# Altium schematic symbol library WE-TPC.SchLib: 258 symbols (part 5 of 5)
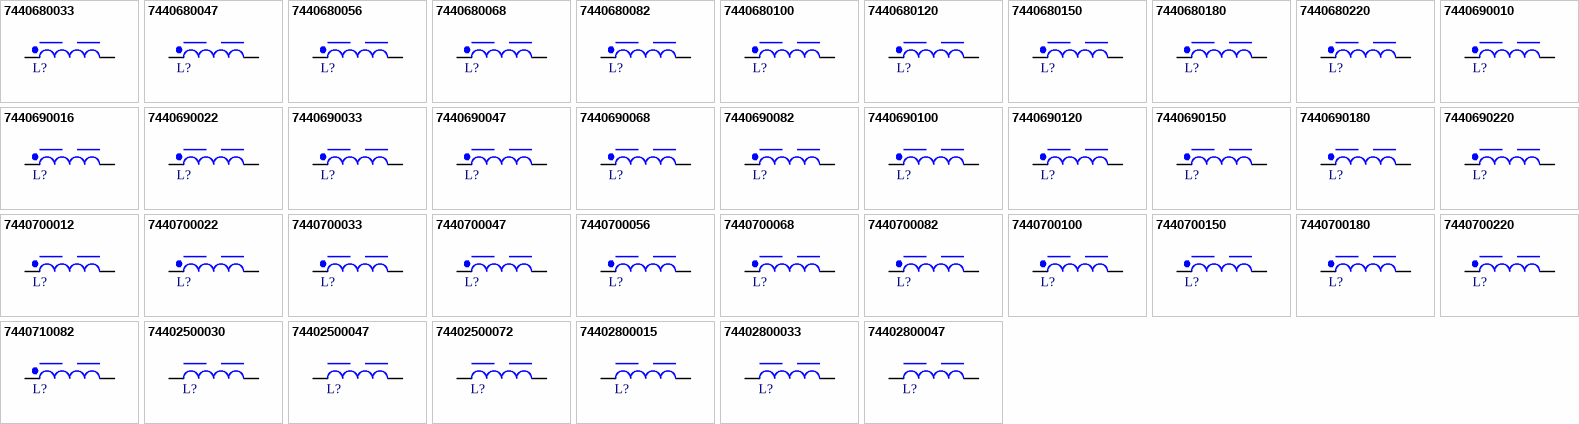
[diagram p10: symbols 7440680033 to 74402800047]

## 7440700220
designator L?, comment 22uH, 1.3A  (value not drawn)
WE-TPC SMT Tiny Power Inductor, size 8020, 22uH, 1.3A, 166mOhm; Manufacturer Part Number: 7440700220; Manufacturer: Wurth Elektronik; Case/Size Code: 8020; Saturation Current: 1A; Self Resonant Frequency: 16MHz; Category: Power Inductors; Match Code: WE-TPC; ComponentLink1Description: Website Link; ComponentLink1URL: https://www.we-online.com/redexpert/article/7440700220?ad; ComponentLink2Description: Datasheet Link; ComponentLink2URL: https://www.we-online.com/redexpert/spec/7440700220?ad; Mount: Surface Mount; Operating Temperature Max: 125°C; Operating Temperature Min: -40°C; Packaging: Tape and Reel; Length: 8mm; Width: 8mm; Height: 1.8mm; DC Resistance: 166mOhm; Inductance: 22uH; Rated Current: 1.3A
footprint WE-TPC_8020
simulation model 8020_7440700220_22u
pins: 1, 2

## 7440710082
designator L?, comment 0.82uH, 7.3A  (value not drawn)
WE-TPC SMT Tiny Power Inductor, size 8043, 0.82uH, 7.3A, 7mOhm; Manufacturer Part Number: 7440710082; Manufacturer: Wurth Elektronik; Case/Size Code: 8043; Saturation Current: 8A; Self Resonant Frequency: 130MHz; Category: Power Inductors; Match Code: WE-TPC; ComponentLink1Description: Website Link; ComponentLink1URL: https://www.we-online.com/redexpert/article/7440710082?ad; ComponentLink2Description: Datasheet Link; ComponentLink2URL: https://www.we-online.com/redexpert/spec/7440710082?ad; Mount: Surface Mount; Operating Temperature Max: 125°C; Operating Temperature Min: -40°C; Packaging: Tape and Reel; Length: 8mm; Width: 8mm; Height: 4.3mm; DC Resistance: 7mOhm; Inductance: 0.82uH; Rated Current: 7.3A
footprint WE-TPC_8043
simulation model 8043_7440710082_0.82u
pins: 1, 2

## 74402500030
designator L?, comment 0.3uH, 3.9A  (value not drawn)
WE-TPC SMT Tiny Power Inductor, size 2828, 0.3uH, 3.9A, 15mOhm; Manufacturer Part Number: 74402500030; Manufacturer: Wurth Elektronik; Case/Size Code: 2828; Saturation Current: 5.7A; Self Resonant Frequency: 440MHz; Category: Power Inductors; Match Code: WE-TPC; ComponentLink1Description: Website Link; ComponentLink1URL: https://www.we-online.com/redexpert/article/74402500030?ad; ComponentLink2Description: Datasheet Link; ComponentLink2URL: https://www.we-online.com/redexpert/spec/74402500030?ad; Mount: Surface Mount; Operating Temperature Max: 125°C; Operating Temperature Min: -40°C; Packaging: Tape and Reel; Length: 2.8mm; Width: 2.8mm; Height: 2.8mm; DC Resistance: 15mOhm; Inductance: 0.3uH; Rated Current: 3.9A
footprint WE-TPC_2828
simulation model 2828_74402500030_0.3u
pins: 1, 2

## 74402500047
designator L?, comment 0.47uH, 3.3A  (value not drawn)
WE-TPC SMT Tiny Power Inductor, size 2828, 0.47uH, 3.3A, 19mOhm; Manufacturer Part Number: 74402500047; Manufacturer: Wurth Elektronik; Case/Size Code: 2828; Saturation Current: 4.7A; Self Resonant Frequency: 290MHz; Category: Power Inductors; Match Code: WE-TPC; ComponentLink1Description: Website Link; ComponentLink1URL: https://www.we-online.com/redexpert/article/74402500047?ad; ComponentLink2Description: Datasheet Link; ComponentLink2URL: https://www.we-online.com/redexpert/spec/74402500047?ad; Mount: Surface Mount; Operating Temperature Max: 125°C; Operating Temperature Min: -40°C; Packaging: Tape and Reel; Length: 2.8mm; Width: 2.8mm; Height: 2.8mm; DC Resistance: 19mOhm; Inductance: 0.47uH; Rated Current: 3.3A
footprint WE-TPC_2828
simulation model 2828_74402500047_0.47u
pins: 1, 2

## 74402500072
designator L?, comment 0.72uH, 3A  (value not drawn)
WE-TPC SMT Tiny Power Inductor, size 2828, 0.72uH, 3A, 23.5mOhm; Manufacturer Part Number: 74402500072; Manufacturer: Wurth Elektronik; Case/Size Code: 2828; Saturation Current: 4A; Self Resonant Frequency: 210MHz; Category: Power Inductors; Match Code: WE-TPC; ComponentLink1Description: Website Link; ComponentLink1URL: https://www.we-online.com/redexpert/article/74402500072?ad; ComponentLink2Description: Datasheet Link; ComponentLink2URL: https://www.we-online.com/redexpert/spec/74402500072?ad; Mount: Surface Mount; Operating Temperature Max: 125°C; Operating Temperature Min: -40°C; Packaging: Tape and Reel; Length: 2.8mm; Width: 2.8mm; Height: 2.8mm; DC Resistance: 23.5mOhm; Inductance: 0.72uH; Rated Current: 3A
footprint WE-TPC_2828
simulation model 2828_74402500072_0.72u
pins: 1, 2

## 74402800015
designator L?, comment 0.15uH, 3A  (value not drawn)
WE-TPC SMT Tiny Power Inductor, size 2811, 0.15uH, 3A, 18mOhm; Manufacturer Part Number: 74402800015; Manufacturer: Wurth Elektronik; Case/Size Code: 2811; Saturation Current: 3.6A; Self Resonant Frequency: 800MHz; Category: Power Inductors; Match Code: WE-TPC; ComponentLink1Description: Website Link; ComponentLink1URL: https://www.we-online.com/redexpert/article/74402800015?ad; ComponentLink2Description: Datasheet Link; ComponentLink2URL: https://www.we-online.com/redexpert/spec/74402800015?ad; Mount: Surface Mount; Operating Temperature Max: 125°C; Operating Temperature Min: -40°C; Packaging: Tape and Reel; Length: 2.78mm; Width: 2.78mm; Height: 1.1mm; DC Resistance: 18mOhm; Inductance: 0.15uH; Rated Current: 3A
footprint WE-TPC_2811
simulation model 2811_74402800015_0.15u
pins: 1, 2

## 74402800033
designator L?, comment 0.33uH, 2.8A  (value not drawn)
WE-TPC SMT Tiny Power Inductor, size 2811, 0.33uH, 2.8A, 27mOhm; Manufacturer Part Number: 74402800033; Manufacturer: Wurth Elektronik; Case/Size Code: 2811; Saturation Current: 2.4A; Self Resonant Frequency: 550MHz; Category: Power Inductors; Match Code: WE-TPC; ComponentLink1Description: Website Link; ComponentLink1URL: https://www.we-online.com/redexpert/article/74402800033?ad; ComponentLink2Description: Datasheet Link; ComponentLink2URL: https://www.we-online.com/redexpert/spec/74402800033?ad; Mount: Surface Mount; Operating Temperature Max: 125°C; Operating Temperature Min: -40°C; Packaging: Tape and Reel; Length: 2.78mm; Width: 2.78mm; Height: 1.1mm; DC Resistance: 27mOhm; Inductance: 0.33uH; Rated Current: 2.8A
footprint WE-TPC_2811
simulation model 2811_74402800033_0.33u
pins: 1, 2

## 74402800047
designator L?, comment 0.47uH, 2.5A  (value not drawn)
WE-TPC SMT Tiny Power Inductor, size 2811, 0.47uH, 2.5A, 36mOhm; Manufacturer Part Number: 74402800047; Manufacturer: Wurth Elektronik; Case/Size Code: 2811; Saturation Current: 2A; Self Resonant Frequency: 350MHz; Category: Power Inductors; Match Code: WE-TPC; ComponentLink1Description: Website Link; ComponentLink1URL: https://www.we-online.com/redexpert/article/74402800047?ad; ComponentLink2Description: Datasheet Link; ComponentLink2URL: https://www.we-online.com/redexpert/spec/74402800047?ad; Mount: Surface Mount; Operating Temperature Max: 125°C; Operating Temperature Min: -40°C; Packaging: Tape and Reel; Length: 2.78mm; Width: 2.78mm; Height: 1.1mm; DC Resistance: 36mOhm; Inductance: 0.47uH; Rated Current: 2.5A
footprint WE-TPC_2811
simulation model 2811_74402800047_0.47u
pins: 1, 2

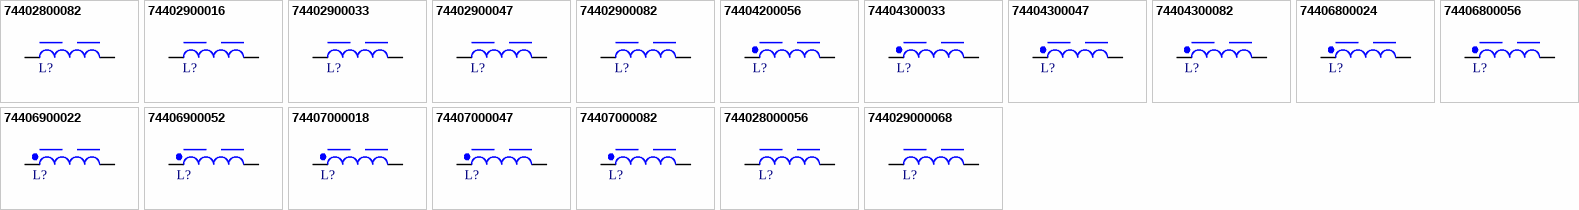
[diagram p6: symbols 74402800082 to 744029000068]

## 74402800082
designator L?, comment 0.82uH, 2A  (value not drawn)
WE-TPC SMT Tiny Power Inductor, size 2811, 0.82uH, 2A, 53mOhm; Manufacturer Part Number: 74402800082; Manufacturer: Wurth Elektronik; Case/Size Code: 2811; Saturation Current: 1.6A; Self Resonant Frequency: 180MHz; Category: Power Inductors; Match Code: WE-TPC; ComponentLink1Description: Website Link; ComponentLink1URL: https://www.we-online.com/redexpert/article/74402800082?ad; ComponentLink2Description: Datasheet Link; ComponentLink2URL: https://www.we-online.com/redexpert/spec/74402800082?ad; Mount: Surface Mount; Operating Temperature Max: 125°C; Operating Temperature Min: -40°C; Packaging: Tape and Reel; Length: 2.78mm; Width: 2.78mm; Height: 1.1mm; DC Resistance: 53mOhm; Inductance: 0.82uH; Rated Current: 2A
footprint WE-TPC_2811
simulation model 2811_74402800082_0.82u
pins: 1, 2

## 74402900016
designator L?, comment 0.16uH, 3.8A  (value not drawn)
WE-TPC SMT Tiny Power Inductor, size 2813, 0.16uH, 3.8A, 16mOhm; Manufacturer Part Number: 74402900016; Manufacturer: Wurth Elektronik; Case/Size Code: 2813; Saturation Current: 3.9A; Self Resonant Frequency: 800MHz; Category: Power Inductors; Match Code: WE-TPC; ComponentLink1Description: Website Link; ComponentLink1URL: https://www.we-online.com/redexpert/article/74402900016?ad; ComponentLink2Description: Datasheet Link; ComponentLink2URL: https://www.we-online.com/redexpert/spec/74402900016?ad; Mount: Surface Mount; Operating Temperature Max: 125°C; Operating Temperature Min: -40°C; Packaging: Tape and Reel; Length: 2.78mm; Width: 2.78mm; Height: 1.35mm; DC Resistance: 16mOhm; Inductance: 0.16uH; Rated Current: 3.8A
footprint WE-TPC_2813
simulation model 2813_74402900016_0.16u
pins: 1, 2

## 74402900033
designator L?, comment 0.33uH, 3.1A  (value not drawn)
WE-TPC SMT Tiny Power Inductor, size 2813, 0.33uH, 3.1A, 23mOhm; Manufacturer Part Number: 74402900033; Manufacturer: Wurth Elektronik; Case/Size Code: 2813; Saturation Current: 2.7A; Self Resonant Frequency: 500MHz; Category: Power Inductors; Match Code: WE-TPC; ComponentLink1Description: Website Link; ComponentLink1URL: https://www.we-online.com/redexpert/article/74402900033?ad; ComponentLink2Description: Datasheet Link; ComponentLink2URL: https://www.we-online.com/redexpert/spec/74402900033?ad; Mount: Surface Mount; Operating Temperature Max: 125°C; Operating Temperature Min: -40°C; Packaging: Tape and Reel; Length: 2.78mm; Width: 2.78mm; Height: 1.35mm; DC Resistance: 23mOhm; Inductance: 0.33uH; Rated Current: 3.1A
footprint WE-TPC_2813
simulation model 2813_74402900033_0.33u
pins: 1, 2

## 74402900047
designator L?, comment 0.47uH, 2.8A  (value not drawn)
WE-TPC SMT Tiny Power Inductor, size 2813, 0.47uH, 2.8A, 29mOhm; Manufacturer Part Number: 74402900047; Manufacturer: Wurth Elektronik; Case/Size Code: 2813; Saturation Current: 2.2A; Self Resonant Frequency: 350MHz; Category: Power Inductors; Match Code: WE-TPC; ComponentLink1Description: Website Link; ComponentLink1URL: https://www.we-online.com/redexpert/article/74402900047?ad; ComponentLink2Description: Datasheet Link; ComponentLink2URL: https://www.we-online.com/redexpert/spec/74402900047?ad; Mount: Surface Mount; Operating Temperature Max: 125°C; Operating Temperature Min: -40°C; Packaging: Tape and Reel; Length: 2.78mm; Width: 2.78mm; Height: 1.35mm; DC Resistance: 29mOhm; Inductance: 0.47uH; Rated Current: 2.8A
footprint WE-TPC_2813
simulation model 2813_74402900047_0.47u
pins: 1, 2

## 74402900082
designator L?, comment 0.82uH, 2.4A  (value not drawn)
WE-TPC SMT Tiny Power Inductor, size 2813, 0.82uH, 2.4A, 36mOhm; Manufacturer Part Number: 74402900082; Manufacturer: Wurth Elektronik; Case/Size Code: 2813; Saturation Current: 1.8A; Self Resonant Frequency: 200MHz; Category: Power Inductors; Match Code: WE-TPC; ComponentLink1Description: Website Link; ComponentLink1URL: https://www.we-online.com/redexpert/article/74402900082?ad; ComponentLink2Description: Datasheet Link; ComponentLink2URL: https://www.we-online.com/redexpert/spec/74402900082?ad; Mount: Surface Mount; Operating Temperature Max: 125°C; Operating Temperature Min: -40°C; Packaging: Tape and Reel; Length: 2.78mm; Width: 2.78mm; Height: 1.35mm; DC Resistance: 36mOhm; Inductance: 0.82uH; Rated Current: 2.4A
footprint WE-TPC_2813
simulation model 2813_74402900082_0.82u
pins: 1, 2

## 74404200056
designator L?, comment 0.56uH, 3.1A  (value not drawn)
WE-TPC SMT Tiny Power Inductor, size 4818, 0.56uH, 3.1A, 19mOhm; Manufacturer Part Number: 74404200056; Manufacturer: Wurth Elektronik; Case/Size Code: 4818; Saturation Current: 3A; Self Resonant Frequency: 190MHz; Category: Power Inductors; Match Code: WE-TPC; ComponentLink1Description: Website Link; ComponentLink1URL: https://www.we-online.com/redexpert/article/74404200056?ad; ComponentLink2Description: Datasheet Link; ComponentLink2URL: https://www.we-online.com/redexpert/spec/74404200056?ad; Mount: Surface Mount; Operating Temperature Max: 125°C; Operating Temperature Min: -40°C; Packaging: Tape and Reel; Length: 4.8mm; Width: 4.8mm; Height: 1.8mm; DC Resistance: 19mOhm; Inductance: 0.56uH; Rated Current: 3.1A
footprint WE-TPC_4818
simulation model 4818_74404200056_0.56u
pins: 1, 2

## 74404300033
designator L?, comment 0.33uH, 4A  (value not drawn)
WE-TPC SMT Tiny Power Inductor, size 4828, 0.33uH, 4A, 8mOhm; Manufacturer Part Number: 74404300033; Manufacturer: Wurth Elektronik; Case/Size Code: 4828; Saturation Current: 6A; Self Resonant Frequency: 400MHz; Category: Power Inductors; Match Code: WE-TPC; ComponentLink1Description: Website Link; ComponentLink1URL: https://www.we-online.com/redexpert/article/74404300033?ad; ComponentLink2Description: Datasheet Link; ComponentLink2URL: https://www.we-online.com/redexpert/spec/74404300033?ad; Mount: Surface Mount; Operating Temperature Max: 125°C; Operating Temperature Min: -40°C; Packaging: Tape and Reel; Length: 4.8mm; Width: 4.8mm; Height: 2.8mm; DC Resistance: 8mOhm; Inductance: 0.33uH; Rated Current: 4A
footprint WE-TPC_4828
simulation model 4828_74404300033_0.33u
pins: 1, 2

## 74404300047
designator L?, comment 0.47uH, 3.8A  (value not drawn)
WE-TPC SMT Tiny Power Inductor, size 4828, 0.47uH, 3.8A, 10mOhm; Manufacturer Part Number: 74404300047; Manufacturer: Wurth Elektronik; Case/Size Code: 4828; Saturation Current: 5A; Self Resonant Frequency: 200MHz; Category: Power Inductors; Match Code: WE-TPC; ComponentLink1Description: Website Link; ComponentLink1URL: https://www.we-online.com/redexpert/article/74404300047?ad; ComponentLink2Description: Datasheet Link; ComponentLink2URL: https://www.we-online.com/redexpert/spec/74404300047?ad; Mount: Surface Mount; Operating Temperature Max: 125°C; Operating Temperature Min: -40°C; Packaging: Tape and Reel; Length: 4.8mm; Width: 4.8mm; Height: 2.8mm; DC Resistance: 10mOhm; Inductance: 0.47uH; Rated Current: 3.8A
footprint WE-TPC_4828
simulation model 4828_74404300047_0.47u
pins: 1, 2

## 74404300082
designator L?, comment 0.82uH, 3.5A  (value not drawn)
WE-TPC SMT Tiny Power Inductor, size 4828, 0.82uH, 3.5A, 14mOhm; Manufacturer Part Number: 74404300082; Manufacturer: Wurth Elektronik; Case/Size Code: 4828; Saturation Current: 3.7A; Self Resonant Frequency: 170MHz; Category: Power Inductors; Match Code: WE-TPC; ComponentLink1Description: Website Link; ComponentLink1URL: https://www.we-online.com/redexpert/article/74404300082?ad; ComponentLink2Description: Datasheet Link; ComponentLink2URL: https://www.we-online.com/redexpert/spec/74404300082?ad; Mount: Surface Mount; Operating Temperature Max: 125°C; Operating Temperature Min: -40°C; Packaging: Tape and Reel; Length: 4.8mm; Width: 4.8mm; Height: 2.8mm; DC Resistance: 14mOhm; Inductance: 0.82uH; Rated Current: 3.5A
footprint WE-TPC_4828
simulation model 4828_74404300082_0.82u
pins: 1, 2

## 74406800024
designator L?, comment 0.24uH, 4.1A  (value not drawn)
WE-TPC SMT Tiny Power Inductor, size 8012, 0.24uH, 4.1A, 15mOhm; Manufacturer Part Number: 74406800024; Manufacturer: Wurth Elektronik; Case/Size Code: 8012; Saturation Current: 5.8A; Self Resonant Frequency: 200MHz; Category: Power Inductors; Match Code: WE-TPC; ComponentLink1Description: Website Link; ComponentLink1URL: https://www.we-online.com/redexpert/article/74406800024?ad; ComponentLink2Description: Datasheet Link; ComponentLink2URL: https://www.we-online.com/redexpert/spec/74406800024?ad; Mount: Surface Mount; Operating Temperature Max: 125°C; Operating Temperature Min: -40°C; Packaging: Tape and Reel; Length: 8mm; Width: 8mm; Height: 1.1mm; DC Resistance: 15mOhm; Inductance: 0.24uH; Rated Current: 4.1A
footprint WE-TPC_8012
simulation model 8012_74406800024_0.24u
pins: 1, 2

## 74406800056
designator L?, comment 0.56uH, 3.4A  (value not drawn)
WE-TPC SMT Tiny Power Inductor, size 8012, 0.56uH, 3.4A, 22mOhm; Manufacturer Part Number: 74406800056; Manufacturer: Wurth Elektronik; Case/Size Code: 8012; Saturation Current: 4A; Self Resonant Frequency: 150MHz; Category: Power Inductors; Match Code: WE-TPC; ComponentLink1Description: Website Link; ComponentLink1URL: https://www.we-online.com/redexpert/article/74406800056?ad; ComponentLink2Description: Datasheet Link; ComponentLink2URL: https://www.we-online.com/redexpert/spec/74406800056?ad; Mount: Surface Mount; Operating Temperature Max: 125°C; Operating Temperature Min: -40°C; Packaging: Tape and Reel; Length: 8mm; Width: 8mm; Height: 1.1mm; DC Resistance: 22mOhm; Inductance: 0.56uH; Rated Current: 3.4A
footprint WE-TPC_8012
simulation model 8012_74406800056_0.56u
pins: 1, 2

## 74406900022
designator L?, comment 0.22uH, 5.5A  (value not drawn)
WE-TPC SMT Tiny Power Inductor, size 8015, 0.22uH, 5.5A, 9mOhm; Manufacturer Part Number: 74406900022; Manufacturer: Wurth Elektronik; Case/Size Code: 8015; Saturation Current: 7.5A; Self Resonant Frequency: 400MHz; Category: Power Inductors; Match Code: WE-TPC; ComponentLink1Description: Website Link; ComponentLink1URL: https://www.we-online.com/redexpert/article/74406900022?ad; ComponentLink2Description: Datasheet Link; ComponentLink2URL: https://www.we-online.com/redexpert/spec/74406900022?ad; Mount: Surface Mount; Operating Temperature Max: 125°C; Operating Temperature Min: -40°C; Packaging: Tape and Reel; Length: 8mm; Width: 8mm; Height: 1.35mm; DC Resistance: 9mOhm; Inductance: 0.22uH; Rated Current: 5.5A
footprint WE-TPC_8015
simulation model 8015_74406900022_0.22u
pins: 1, 2

## 74406900052
designator L?, comment 0.52uH, 4.3A  (value not drawn)
WE-TPC SMT Tiny Power Inductor, size 8015, 0.52uH, 4.3A, 15mOhm; Manufacturer Part Number: 74406900052; Manufacturer: Wurth Elektronik; Case/Size Code: 8015; Saturation Current: 5.8A; Self Resonant Frequency: 100MHz; Category: Power Inductors; Match Code: WE-TPC; ComponentLink1Description: Website Link; ComponentLink1URL: https://www.we-online.com/redexpert/article/74406900052?ad; ComponentLink2Description: Datasheet Link; ComponentLink2URL: https://www.we-online.com/redexpert/spec/74406900052?ad; Mount: Surface Mount; Operating Temperature Max: 125°C; Operating Temperature Min: -40°C; Packaging: Tape and Reel; Length: 8mm; Width: 8mm; Height: 1.35mm; DC Resistance: 15mOhm; Inductance: 0.52uH; Rated Current: 4.3A
footprint WE-TPC_8015
simulation model 8015_74406900052_0.52u
pins: 1, 2

## 74407000018
designator L?, comment 0.18uH, 8.5A  (value not drawn)
WE-TPC SMT Tiny Power Inductor, size 8020, 0.18uH, 8.5A, 3.51mOhm; Manufacturer Part Number: 74407000018; Manufacturer: Wurth Elektronik; Case/Size Code: 8020; Saturation Current: 9A; Self Resonant Frequency: 600MHz; Category: Power Inductors; Match Code: WE-TPC; ComponentLink1Description: Website Link; ComponentLink1URL: https://www.we-online.com/redexpert/article/74407000018?ad; ComponentLink2Description: Datasheet Link; ComponentLink2URL: https://www.we-online.com/redexpert/spec/74407000018?ad; Mount: Surface Mount; Operating Temperature Max: 125°C; Operating Temperature Min: -40°C; Packaging: Tape and Reel; Length: 8mm; Width: 8mm; Height: 1.8mm; DC Resistance: 3.51mOhm; Inductance: 0.18uH; Rated Current: 8.5A
footprint WE-TPC_8020
simulation model 8020_74407000018_0.18u
pins: 1, 2

## 74407000047
designator L?, comment 0.47uH, 7A  (value not drawn)
WE-TPC SMT Tiny Power Inductor, size 8020, 0.47uH, 7A, 5.8mOhm; Manufacturer Part Number: 74407000047; Manufacturer: Wurth Elektronik; Case/Size Code: 8020; Saturation Current: 6.5A; Self Resonant Frequency: 300MHz; Category: Power Inductors; Match Code: WE-TPC; ComponentLink1Description: Website Link; ComponentLink1URL: https://www.we-online.com/redexpert/article/74407000047?ad; ComponentLink2Description: Datasheet Link; ComponentLink2URL: https://www.we-online.com/redexpert/spec/74407000047?ad; Mount: Surface Mount; Operating Temperature Max: 125°C; Operating Temperature Min: -40°C; Packaging: Tape and Reel; Length: 8mm; Width: 8mm; Height: 1.8mm; DC Resistance: 5.8mOhm; Inductance: 0.47uH; Rated Current: 7A
footprint WE-TPC_8020
simulation model 8020_74407000047_0.47u
pins: 1, 2

## 74407000082
designator L?, comment 0.82uH, 6.2A  (value not drawn)
WE-TPC SMT Tiny Power Inductor, size 8020, 0.82uH, 6.2A, 8.5mOhm; Manufacturer Part Number: 74407000082; Manufacturer: Wurth Elektronik; Case/Size Code: 8020; Saturation Current: 5.5A; Self Resonant Frequency: 200MHz; Category: Power Inductors; Match Code: WE-TPC; ComponentLink1Description: Website Link; ComponentLink1URL: https://www.we-online.com/redexpert/article/74407000082?ad; ComponentLink2Description: Datasheet Link; ComponentLink2URL: https://www.we-online.com/redexpert/spec/74407000082?ad; Mount: Surface Mount; Operating Temperature Max: 125°C; Operating Temperature Min: -40°C; Packaging: Tape and Reel; Length: 8mm; Width: 8mm; Height: 1.8mm; DC Resistance: 8.5mOhm; Inductance: 0.82uH; Rated Current: 6.2A
footprint WE-TPC_8020
simulation model 8020_74407000082_0.82u
pins: 1, 2

## 744028000056
designator L?, comment 0.056uH, 4.5A  (value not drawn)
WE-TPC SMT Tiny Power Inductor, size 2811, 0.056uH, 4.5A, 11.5mOhm; Manufacturer Part Number: 744028000056; Manufacturer: Wurth Elektronik; Case/Size Code: 2811; Saturation Current: 6A; Self Resonant Frequency: 2000MHz; Category: Power Inductors; Match Code: WE-TPC; ComponentLink1Description: Website Link; ComponentLink1URL: https://www.we-online.com/redexpert/article/744028000056?ad; ComponentLink2Description: Datasheet Link; ComponentLink2URL: https://www.we-online.com/redexpert/spec/744028000056?ad; Mount: Surface Mount; Operating Temperature Max: 125°C; Operating Temperature Min: -40°C; Packaging: Tape and Reel; Length: 2.78mm; Width: 2.78mm; Height: 1.1mm; DC Resistance: 11.5mOhm; Inductance: 0.056uH; Rated Current: 4.5A
footprint WE-TPC_2811
simulation model 2811_744028000056_0.056u
pins: 1, 2

## 744029000068
designator L?, comment 0.068uH, 4.5A  (value not drawn)
WE-TPC SMT Tiny Power Inductor, size 2813, 0.068uH, 4.5A, 10.5mOhm; Manufacturer Part Number: 744029000068; Manufacturer: Wurth Elektronik; Case/Size Code: 2813; Saturation Current: 5.5A; Self Resonant Frequency: 1000MHz; Category: Power Inductors; Match Code: WE-TPC; ComponentLink1Description: Website Link; ComponentLink1URL: https://www.we-online.com/redexpert/article/744029000068?ad; ComponentLink2Description: Datasheet Link; ComponentLink2URL: https://www.we-online.com/redexpert/spec/744029000068?ad; Mount: Surface Mount; Operating Temperature Max: 125°C; Operating Temperature Min: -40°C; Packaging: Tape and Reel; Length: 2.78mm; Width: 2.78mm; Height: 1.35mm; DC Resistance: 10.5mOhm; Inductance: 0.068uH; Rated Current: 4.5A
footprint WE-TPC_2813
simulation model 2813_744029000068_0.068u
pins: 1, 2